# Altium footprint library LD15-23BxxR2-M.PcbLib: 1 footprints
Each footprint in its own frame and in the unit in brackets; x right, y up, seen from the top. Pads: shape width x height; smd on the part's side, far side on the other; paste and mask are expansions set on the pad; w line width, h text height; cw(c..) or ccw(c..) is an arc to the next point about the centre after c.
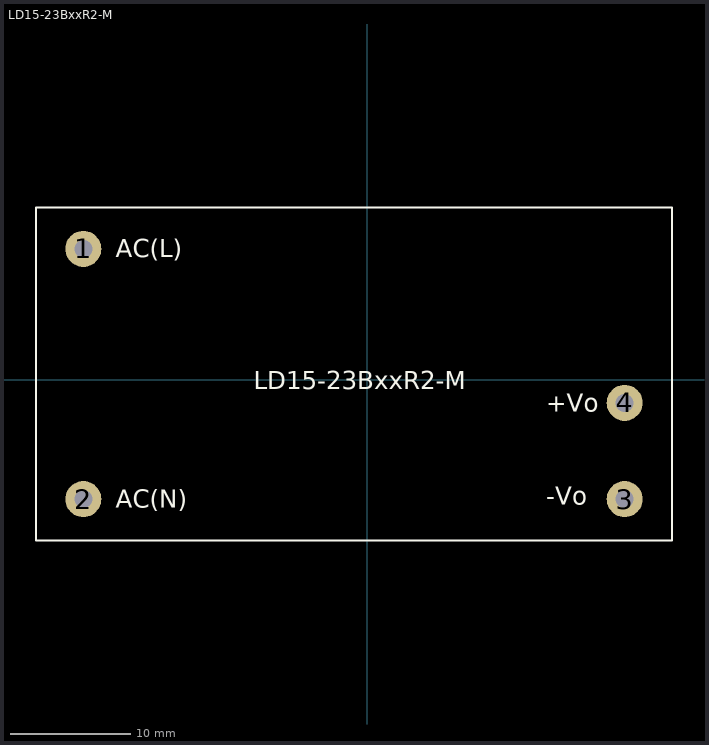
[diagram p0: the footprint, top view; thin cyan lines are the x and y axes]

## LD15-23BxxR2-M [mm]
pads (4):
  round 3 hole 1.5: 1(-23.594,10.898) 2(-23.594,-9.902) 3(21.406,-9.902) 4(21.406,-1.902)
Top Overlay:
  lines w0.175: -27.544,-13.352 25.356,-13.352 25.356,14.348 -27.544,14.348 -27.544,-13.352
  text "-Vo" at 14.899,-10.372 h1.5
  text "+Vo" at 14.899,-2.64 h1.5
  text "AC(L)" at -20.879,10.2 h1.5
  text "AC(N)" at -20.879,-10.621 h1.5
  text "LD15-23BxxR2-M" at -9.448,-0.755 h1.5